# EAGLE library part OPA2333AQDRQ1 (library SamacSys_Parts)
Automotive catalog 1.8V, 17uA, 2uV, microPOWER CMOS Zero-Drift Series Operational Amplifier Source: Datasheet <http://www.ti.com/lit/gpn/opa2333-q1>
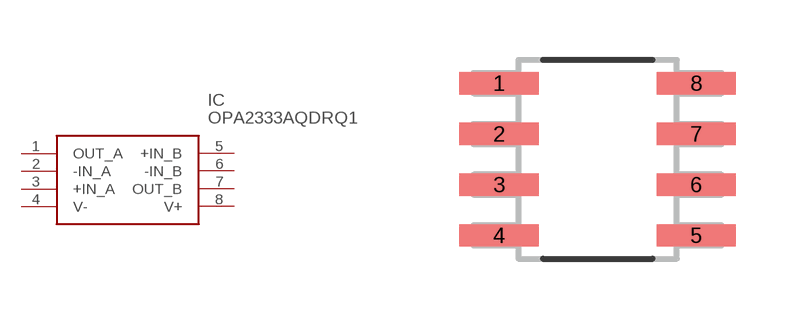
[diagram p23: symbol with the pads of SOIC127P600X175-8N; footprint SOIC127P600X175-8N]

Designator prefix IC

## OPA2333AQDRQ1 (DESCRIPTION: Automotive catalog 1.8V, 17uA, 2uV, microPOWER CMOS Zero-Drift Series Operational Amplifier; HEIGHT: mm; MANUFACTURER_NAME: Texas Instruments; MANUFACTURER_PART_NUMBER: OPA2333AQDRQ1; MOUSER_PART_NUMBER: 595-OPA2333AQDRQ1; MOUSER_PRICE-STOCK: https://www.mouser.com/Search/Refine.aspx?Keyword=595-OPA2333AQDRQ1)  [SOIC127P600X175-8N]
1  OUT_A
2  -IN_A
3  +IN_A
4  V-
5  +IN_B
6  -IN_B
7  OUT_B
8  V+

## Footprint SOIC127P600X175-8N (pad centres in mm)
SOIC127P600X175-8N
smd 1.981 x 0.559: 1 -2.464,1.905; 2 -2.464,0.635; 3 -2.464,-0.635; 4 -2.464,-1.905; 5 2.464,-1.905; 6 2.464,-0.635; 7 2.464,0.635; 8 2.464,1.905